# Altium schematic symbol library 迷你打印机.SchLib: 24 symbols
Pins are listed as number, name and electrical type; pins without a type are passive.

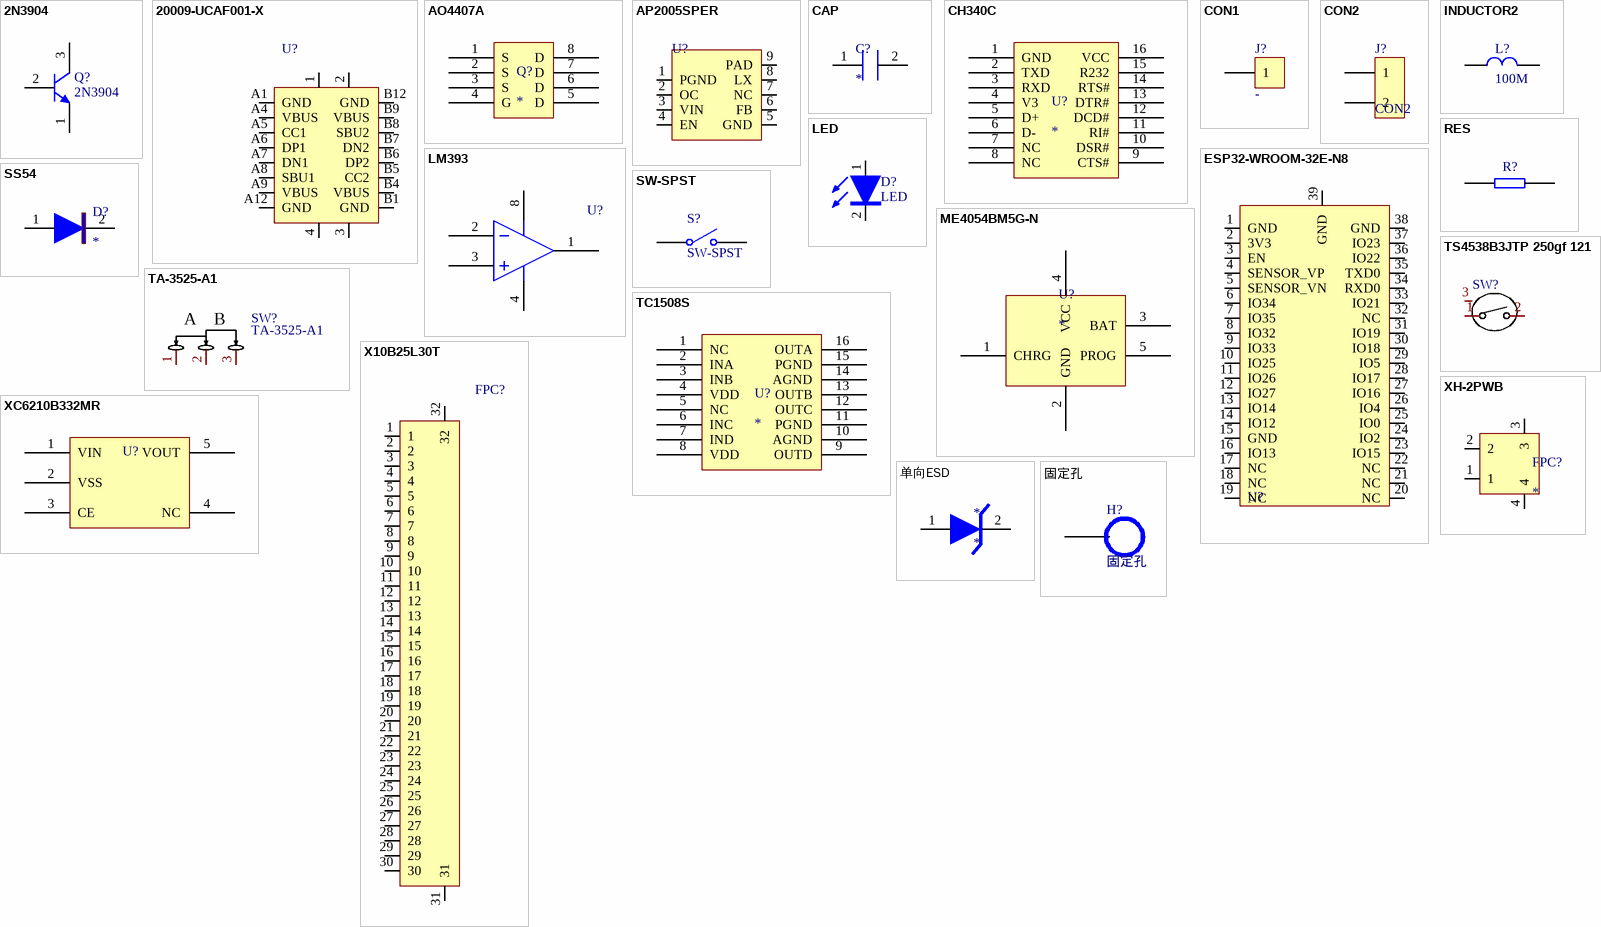
[diagram p0: symbols 2N3904 to 固定孔]

## 2N3904
designator Q?
NPN General Purpose Amplifier; Published: 8-Jun-2000; LatestRevisionDate: 15-Jan-2003; LatestRevisionNote: PCB Footprint 'BCY-W3/D4.7' replaced; DatasheetDocument: 1997; PackageDocument: Sep-1998; PackageReference: TO-92A; Publisher: Altium Limited; Code_JEDEC: TO-92A; ComponentLink1Description: Manufacturer Link; ComponentLink1URL: http://www.fairchildsemi.com/; ComponentLink2Description: Datasheet; ComponentLink2URL: http://www.fairchildsemi.com/ds/2N%2F2N3904.pdf
footprint TO-92A (TO, Flat Index; 3 In-Line, Axial Leads; Body Dia. 4.5mm; Leads 0.51 x 0.48 mm (max))
simulation model 2N3904 (NPN)
signal-integrity model 2N3904
pins: 1, 2, 3

## 20009-UCAF001-X
designator U?
IC; Manufacturer: MINTRON(明硕); Symbol: 20009-UCAF001-X; Add into BOM: yes; Device: 20009-UCAF001-X; Supplier: LCSC; Supplier Part: C3148200; Manufacturer Part: 20009-UCAF001-X; LCSC Part Name: 20009-UCAF001-X; Supplier Footprint: SMD; Datasheet: https://atta.szlcsc.com/upload/public/pdf/source/20220705/4C04992B6F70FB490BC74B4779796E6C.pdf; Convert to PCB: yes
footprint TYPE-C-SMD_20009-UCAF001-X
pins: 1, 2, 3, 4, A1 GND, A4 VBUS, A5 CC1, A6 DP1, A7 DN1, A8 SBU1, A9 VBUS, A12 GND, B1 GND, B4 VBUS, B5 CC2, B6 DP2, B7 DN2, B8 SBU2, B9 VBUS, B12 GND

## AO4407A
designator Q?
二极管
pins: 1 S, 2 S, 3 S, 4 G, 5 D, 6 D, 7 D, 8 D

## AP2005SPER
designator U?
IC; Manufacturer: chipown(芯朋微电子); Symbol: AP2005SPER; Add into BOM: yes; Function: 升压型; Input Voltage: 2.5V~5.5V; Output Voltage: 9V; Switching Frequency: 1MHz; Synchronous Rectification: 否; Number of Outputs: 1; Topology: 升压式; Switch tube (built-in/external): 内置; Device: AP2005SPER; Supplier: LCSC; Manufacturer Part: AP2005SPER; Supplier Part: C130340; LCSC Part Name: AP2005SPER; Supplier Footprint: ESOP-8; Datasheet: https://atta.szlcsc.com/upload/public/pdf/source/20170918/C130340_1505703385511975250.pdf; Convert to PCB: yes; Output Current (Max): -
footprint ESOP-8_L4.9-W3.9-P1.27-LS6.0-BL-EP
pins: 1 PGND, 2 OC, 3 VIN, 4 EN, 5 GND, 6 FB, 7 NC, 8 LX, 9 PAD

## CAP
designator C?
电容
pins: 1, 2

## CH340C
designator U?
IC
pins: 1 GND, 2 TXD, 3 RXD, 4 V3, 5 D+, 6 D-, 7 NC, 8 NC, 9 CTS#, 10 DSR#, 11 RI#, 12 DCD#, 13 DTR#, 14 RTS#, 15 R232, 16 VCC

## CON1
designator J?, comment -
Connector
footprint 单面焊盘2*3MM_1PIN (Footprint not found)
footprint 单面焊盘2*3MM_1PIN (Footprint not found)
footprint 单面焊盘2*3MM_1PIN (Footprint not found)
pins: 1
2 alternate drawings of the same symbol

## CON2
designator J?
Connector
footprint 2PIN杜邦插座_1.27mm
pins: 1, 2
2 alternate drawings of the same symbol

## ESP32-WROOM-32E-N8
designator U?
IC; Manufacturer: ESPRESSIF(乐鑫); Symbol: ESP32-WROOM-32E(8MB); Device: ESP32-WROOM-32E-N8; Add into BOM: yes; Supplier: LCSC; Supplier Part: C701342; Manufacturer Part: ESP32-WROOM-32E-N8; LCSC Part Name: 通用型Wi-Fi+BT+BLE MCU模组; Supplier Footprint: SMD,18x25.5mm; Datasheet: https://atta.szlcsc.com/upload/public/pdf/source/20200730/C701341_95E089979D39CD8D2471FDC7C7AF29A1.pdf; Convert to PCB: yes
footprint WIFI-SMD_ESP32-WROOM-32E
pins: 1 GND, 2 3V3, 3 EN, 4 SENSOR_VP, 5 SENSOR_VN, 6 IO34, 7 IO35, 8 IO32, 9 IO33, 10 IO25, 11 IO26, 12 IO27, 13 IO14, 14 IO12, 15 GND, 16 IO13, 17 NC, 18 NC, 19 NC, 20 NC, 21 NC, 22 NC, 23 IO15, 24 IO2, 25 IO0, 26 IO4, 27 IO16, 28 IO17, 29 IO5, 30 IO18, 31 IO19, 32 NC, 33 IO21, 34 RXD0, 35 TXD0, 36 IO22, 37 IO23, 38 GND, 39 GND

## INDUCTOR2
designator L?, comment 100M
电感
pins: 1, 2

## LED
designator D?
footprint 0805D (Footprint not found)
pins: 1, 2

## LM393
designator U?  (value not drawn)
放大器; Published: 8-Jun-2000; LatestRevisionDate: 17-Jul-2002; LatestRevisionNote: Re-released for DXP Platform.; DatasheetVersion: REV. B; PackageVersion: 1990; PackageReference: H-08A; Publisher: Altium Limited; PackageDescription: Can; 8 Leads; Pin Circle Dia. 5.08 mm; Lead Dia. 0.53 mm (max); ComponentLink1Description: Manufacturer Link; ComponentLink1URL: http://www.analog.com/
simulation model AD645A (Spice Subcircuit)
pins: 1 OUT, 2 IN-, 3 IN+, 4 V- (power), 8 V+ (power)

## ME4054BM5G-N
designator U?
IC
pins: 1 CHRG, 2 GND, 3 BAT, 4 VCC, 5 PROG

## RES
designator R?
电阻
footprint 0402R (Footprint not found)
pins: 1, 2

## SS54
designator D?
二极管
pins: 1, 2

## SW-SPST
designator S?
Single-Pole, Single-Throw Switch; Published: 24-Mar-1999; LatestRevisionDate: 17-Jul-2002; LatestRevisionNote: Re-released for DXP Platform.; PackageReference: SPST-2; Publisher: Altium Limited; PackageDescription: Switch; 2 Leads
footprint SPST-2 (Switch; 2 Leads)
pins: 1 COMMON, 2 NO

## TA-3525-A1
designator SW?
Manufacturer: Yuandi(元迪); Add into BOM: yes; Symbol: TA-3525-A1; Device: TA-3525-A1; Supplier: LCSC; Supplier Part: C514018; Manufacturer Part: TA-3525-A1; LCSC Part Name: 滑动开关9.1*3.5*2.0mm贴片侧拨单排三脚二档; Supplier Footprint: SMD,3.5x9.1mm; Datasheet: https://atta.szlcsc.com/upload/public/pdf/source/20200415/C514019_BD29F4555739DB2630A1255040CB70C0.pdf; Convert to PCB: yes; Name: TA-3525-A1
footprint SW-SMD_3P-L9.1-W3.5-P2.50-EH6.8
pins: 1, 2, 3
text: A; B

## TC1508S
designator U?
IC
pins: 1 NC, 2 INA, 3 INB, 4 VDD, 5 NC, 6 INC, 7 IND, 8 VDD, 9 OUTD, 10 AGND, 11 PGND, 12 OUTC, 13 OUTB, 14 AGND, 15 PGND, 16 OUTA

## TS4538B3JTP 250gf 121
designator SW?
按键; Manufacturer: SHOU HAN(首韩); Symbol: TS4538B3JTP 250GF 121; Add into BOM: yes; Circuit: 单刀单掷; Actuator Style: 圆形按钮; Operating Force: 250gf; Switch Length: 4.5mm; Switch Height: 3.8mm; Strike Gundam: 不带; Contact Current: 50mA; Voltage Rating (DC): 12V; Insulation Resistance: 100MΩ; Actuator/Cap Color: 黑色; Mechanical Life: 5万次; Device: TS4538B3JTP 250gf 121; LCSC Part Name: 4.5*4.5*3.8mm 立贴 轻触开关; Supplier Part: C2906367; Manufacturer Part: TS4538B3JTP 250gf 121; Supplier Footprint: SMD; Datasheet: https://atta.szlcsc.com/upload/public/pdf/source/20211019/CD02DA46ABCD6E05459BB66A2E36F770.pdf; Supplier: LCSC; Convert to PCB: yes; Mounting Style: 立贴; Switch Width: 4.5mm; Pin Style: -; Operating Temperature: -20℃~+85℃
footprint KEY-SMD_3P-L4.5-W3.8-P3.00-LS4.5-BL
pins: 1, 2, 3 EP

## X10B25L30T
designator FPC?
Manufacturer: XKB Connectivity(中国星坤); Symbol: X10B25L30T; Add into BOM: yes; Locking Feature: 抽屉式; Number of Contacts: 30P; Pitch: 1mm; FFC, FCB Thickness: 0.3mm; Soldering Temperature(Max): 260℃; Device: X10B25L30T; Supplier: LCSC; Supplier Part: C500182; Manufacturer Part: X10B25L30T; LCSC Part Name: 间距:1mm P数:30P 抽屉式 下接; Supplier Footprint: SMD,P=1mm,卧贴; Datasheet: https://atta.szlcsc.com/upload/public/pdf/source/20211011/C16FFC4EB876FDA360008692BDE0DBBC.pdf; Convert to PCB: yes; Contact Type: 下接; Mounting Type: 卧贴; Height Above Board: 2.5mm; Contact Material: 磷青铜; Contact Plating: 锡; Operating Temperature Range: -40℃~+85℃
footprint FPC-SMD_X10B25U30T
pins: 1, 2, 3, 4, 5, 6, 7, 8, 9, 10, 11, 12, 13, 14, 15, 16, 17, 18, 19, 20, 21, 22, 23, 24, 25, 26, 27, 28, 29, 30, 31, 32

## XC6210B332MR
designator U?
IC
pins: 1 VIN, 2 VSS, 3 CE, 4 NC, 5 VOUT

## XH-2PWB
designator FPC?
pins: 1, 2, 3, 4

## 单向ESD
designator *
pins: 1, 2

## 固定孔
designator H?
footprint 铜柱孔3
pins: 11